# Altium footprint library 503182-1852.PcbLib: 2 footprints
Each footprint in its own frame and in the unit in brackets; x right, y up, seen from the top. Pads: shape width x height; smd on the part's side, far side on the other; paste and mask are expansions set on the pad; w line width, h text height; cw(c..) or ccw(c..) is an arc to the next point about the centre after c.
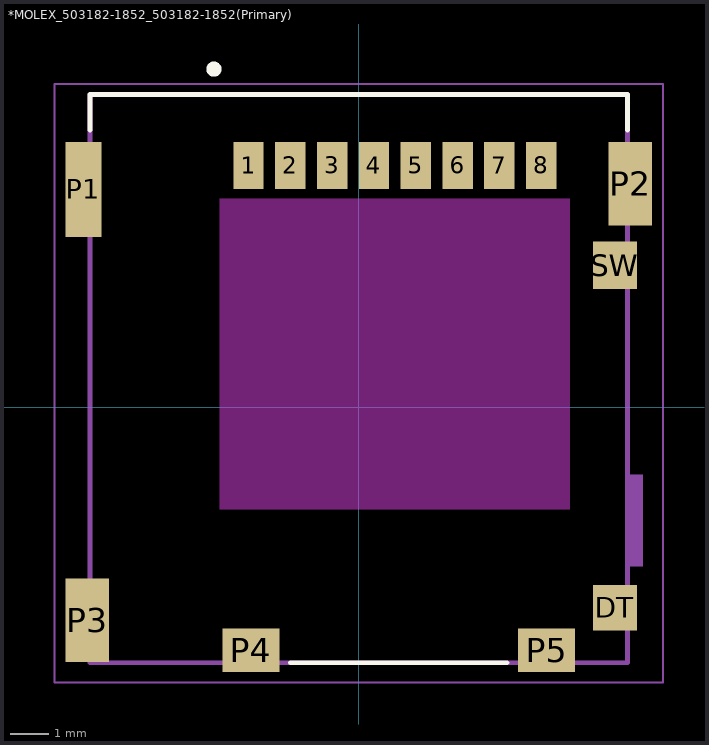
[diagram p0: the footprints below, top view; thin cyan lines are the x and y axes]

## *MOLEX_503182-1852_503182-1852(Primary) [mm]
pads (15):
  rect 0.8x1.24 smd: 1(-2.9,6.355) 2(-1.8,6.355) 3(-0.7,6.355) 4(0.4,6.355) 5(1.5,6.355) 6(2.6,6.355) 7(3.7,6.355) 8(4.8,6.355)
  rect 1.16x1.2 smd: DT(6.74,-5.275)
  rect 0.95x2.5 smd: P1(-7.245,5.725)
  rect 1.15x2.2 smd: P2(7.145,5.875) P3(-7.145,-5.605)
  rect 1.5x1.15 smd: P4(-2.84,-6.4) P5(4.94,-6.4)
  rect 1.16x1.25 smd: SW(6.74,3.725)
Top Overlay:
  circle w0.2: c-3.81,8.89 r0.1
  lines w0.127: -7.07,7.28 -7.07,8.225 7.07,8.225 7.07,7.28 ; -1.8,-6.725 3.9,-6.725
Keep-Out Layer:
  region: -3.655,5.485 5.55,5.485 5.55,0.726 -3.655,0.726
  region: -3.658,5.485 5.55,5.485 5.55,0.727 -3.658,0.727
  region: -3.656,5.485 5.55,5.485 5.55,0.726 -3.656,0.726
  region: -3.659,0.725 5.55,0.725 5.55,-2.682 -3.659,-2.682
  region: -3.655,5.485 5.55,5.485 5.55,0.726 -3.655,0.726
  region: -3.658,5.485 5.55,5.485 5.55,0.727 -3.658,0.727
  region: -3.656,5.485 5.55,5.485 5.55,0.726 -3.656,0.726
  region: -3.659,0.725 5.55,0.725 5.55,-2.682 -3.659,-2.682
  region: -3.655,5.485 5.55,5.485 5.55,0.726 -3.655,0.726
  region: -3.658,5.485 5.55,5.485 5.55,0.727 -3.658,0.727
  region: -3.656,5.485 5.55,5.485 5.55,0.726 -3.656,0.726
  region: -3.659,0.725 5.55,0.725 5.55,-2.682 -3.659,-2.682
Mechanical 4:
  lines w0.127: -7.07,-6.725 -7.07,8.225 ; -7.07,-6.725 7.07,-6.725 ; -7.07,-6.725 -7.07,8.225 ; -7.07,-6.725 7.07,-6.725 ; -7.07,8.225 7.07,8.225 ; -7.07,8.225 7.07,8.225 ; 7.07,-6.725 7.07,8.225 ; 7.07,-6.725 7.07,8.225
Mechanical 16:
  region: 7.085,-1.775 7.47,-1.775 7.47,-4.184 7.085,-4.184
  lines w0.05: -8,-7.25 -8,8.5 8,8.5 8,-7.25 -8,-7.25

## PCBComponent_1 [mm]